# EAGLE library part EA_DOGS102-6 (library ea_v66)
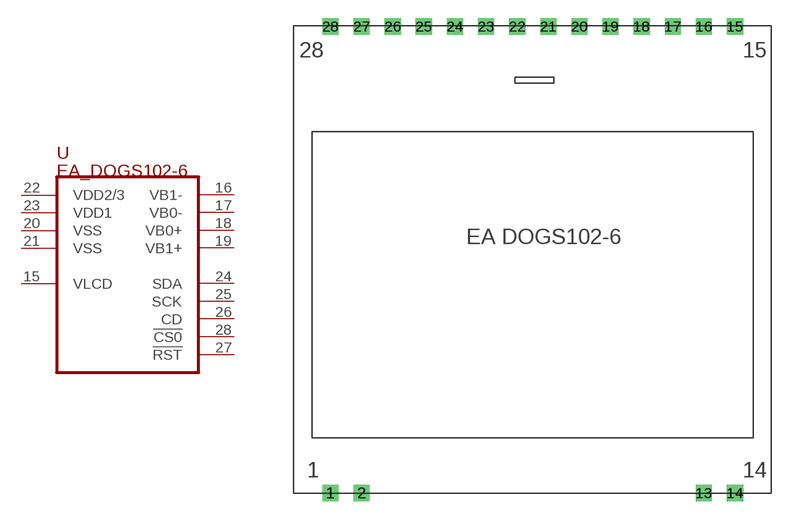
[diagram p6: symbol with the pads of EA_DOGS102-6; footprint EA_DOGS102-6]

Designator prefix -

## EA_DOGS102-6  [EA_DOGS102-6]
15  VLCD  pas
16  VB1-  pas
17  VB0-  pas
18  VB0+  pas
19  VB1+  pas
20  VSS  pwr
21  VSS  pwr
22  VDD2/3  pwr
23  VDD1  pwr
24  SDA
25  SCK  in
26  CD  in
27  !RST!  in
28  !CS0!  in

## Footprint EA_DOGS102-6 (pad centres in mm)
EA DOGS102-6 Grafikdisplay COG 102x64 Pixel inkl.Kontroller Hersteller: ELECTRONIC ASSEMBLY GmbH http://www.lcd-module.de
drill 0.813 square: 1 0,0; 2 2.54,0; 13 30.48,0; 14 33.02,0; 15 33.02,38.1; 16 30.48,38.1; 17 27.94,38.1; 18 25.4,38.1; 19 22.86,38.1; 20 20.32,38.1; 21 17.78,38.1; 22 15.24,38.1; 23 12.7,38.1; 24 10.16,38.1; 25 7.62,38.1; 26 5.08,38.1; 27 2.54,38.1; 28 0,38.1